# EAGLE library part NV2R (library relay)
MOTORUMPOL RELAIS 12V Ningbo Forward Relay Corporation LTD. Ningbo.Huaguan Electronics Corporation LTD. Source: http://www.dblectro.com/site/pdf/NV2R.pdf http://www2.produktinfo.conrad.com/datenblaetter/500000-524999/505013-da-01-de-Motorumpolrelais_12V.pdf Elli-Echo ER20T-S-DC12V - 20A/14VDC Conrad Nr.: 505013 - 62
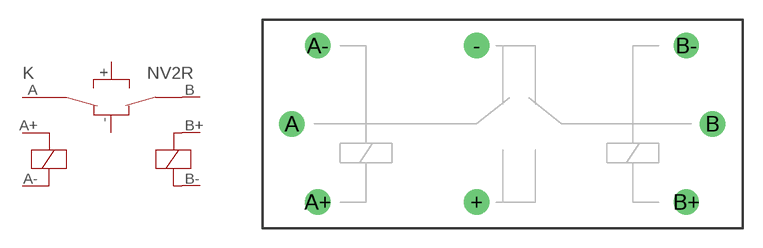
[diagram p141: symbol with the pads of NV2R; footprint NV2R]

Designator prefix K

## NV2R  [NV2R]
+  +  pas
-  -  pas
A  A  pas
A+  A+  pas
A-  A-  pas
B  B  pas
B+  B+  pas
B-  B-  pas

## Footprint NV2R (pad centres in mm)
MOTORUMPOL RELAIS 12V Ningbo Forward Relay Corporation LTD. Ningbo.Huaguan Electronics Corporation LTD. Source: http://www.dblectro.com/site/pdf/NV2R.pdf http://www2.produktinfo.conrad.com/datenblaetter/500000-524999/505013-da-01-de-Motorumpolrelais_12V.pdf Elli-Echo ER20T-S-DC12V - 20A/14VDC Conrad Nr.: 505013 - 62
drill 1.3 pad 1.93: + -2,-6; - -2,6; A -16.2,0; A+ -14.2,-6; A- -14.2,6; B 16.1,0; B+ 14.1,-6; B- 14.1,6